# EAGLE library part 5034800800 (library 5034800800)
8 Position FFC, FPC Connector Contacts, Top and Bottom 0.020" (0.50mm) Surface Mount, Right Angle Check availability <https://pricing.snapeda.com/parts/5034800800/Molex/view-part?ref=eda>
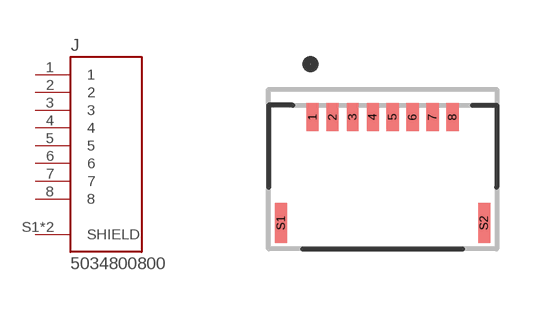
[diagram p0: symbol with the pads of MOLEX_5034800800; footprint MOLEX_5034800800]

Designator prefix J

## 5034800800 (Availability: In Stock; Description: 8 Position FFC, FPC Connector Contacts, Top and Bottom 0.020 (0.50mm) Surface Mount, Right Angle; MF: Molex; MP: 5034800800; Package: None; Price: None; Purchase-URL: https://pricing.snapeda.com/search/part/5034800800/?ref=eda)  [MOLEX_5034800800]
1  1  pas
2  2  pas
3  3  pas
4  4  pas
5  5  pas
6  6  pas
7  7  pas
8  8  pas
S1  SHIELD  pas
S2  SHIELD  pas

## Footprint MOLEX_5034800800 (pad centres in mm)
smd 0.3 x 0.7: 1 -1.75,0; 2 -1.25,0; 3 -0.75,0; 4 -0.25,0; 5 0.25,0; 6 0.75,0; 7 1.25,0; 8 1.75,0
smd 0.3 x 1: S1 -2.54,-2.65; S2 2.54,-2.65